# Altium schematic symbol library BG302-02-A-L-G.SchLib: 1 symbol
Pins are listed as number, name and electrical type; pins without a type are passive.

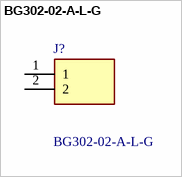
[diagram p0: symbol BG302-02-A-L-G]

## BG302-02-A-L-G
designator J?
2W, 2.54MM PTH SOCKET, SIL, TH,; Manufacturer_Name: GCT (GLOBAL CONNECTOR TECHNOLOGY); Geometry.Height: 2.65mm; Mouser Part Number: 640-BG302-02-A-L-G; Mouser Price/Stock: https://www.mouser.co.uk/ProductDetail/GCT/BG302-02-A-L-G?qs=KUoIvG%2F9IlYVkhtxGalLxA%3D%3D; Manufacturer_Part_Number: BG302-02-A-L-G; Datasheet Link: https://gct.co/files/drawings/bg302.pdf
footprint RHDRRA2W64P0X254_1X2_558X570X265P
pins: 1, 2